# Altium schematic symbol library SamacSys.SchLib: 2 symbols
Pins are listed as number, name and electrical type; pins without a type are passive.

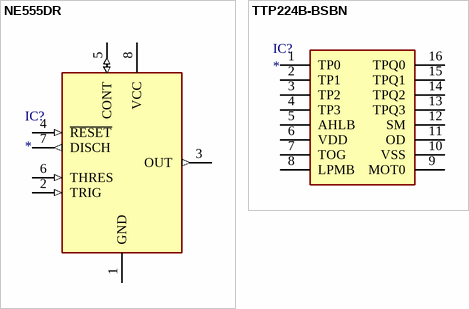
[diagram p0: symbols NE555DR to TTP224B-BSBN]

## NE555DR
designator IC?
Integrated Circuit; Manufacturer_Name: Texas Instruments; Manufacturer_Part_Number: NE555DR; Datasheet Link: http://www.ti.com/lit/ds/symlink/ne555.pdf; Height: 1.75mm; Mouser Part Number: 595-NE555DR; Mouser Price/Stock: https://www.mouser.com/Search/Refine.aspx?Keyword=595-NE555DR; RS Part Number: 1218414; RS Price/Stock: http://uk.rs-online.com/web/p/products/1218414
footprint SOIC127P600X175-8N
pins: 1 GND (power), 2 TRIG (in), 3 OUT (out), 4 ~{RESET} (in), 5 CONT (io), 6 THRES (in), 7 DISCH (out), 8 VCC (power)

## TTP224B-BSBN
designator IC?
Integrated Circuit; Manufacturer_Name: TONTEK; Manufacturer_Part_Number: TTP224B-BSBN; Datasheet Link: https://datasheet.lcsc.com/szlcsc/Tontek-Design-Tech-TTP224B-BSBN_C94149.pdf; Height: 1.75mm
footprint SOP64P600X175-16N
pins: 1 TP0, 2 TP1, 3 TP2, 4 TP3, 5 AHLB, 6 VDD, 7 TOG, 8 LPMB, 9 MOT0, 10 VSS, 11 OD, 12 SM, 13 TPQ3, 14 TPQ2, 15 TPQ1, 16 TPQ0